# EAGLE library part WE-SPEEDY_DESIGN_SERVICE_12PIN (library Wurth_Elektronik_Passive_rev15d)
WE-Speedy Design Service, 12 Pin - Any application that fits package style - Switch Mode Power: Flyback, Forward, Push-Pull, Coupled Inductor -- Telecom Applications: xDSL, POTS Splitter Inductors
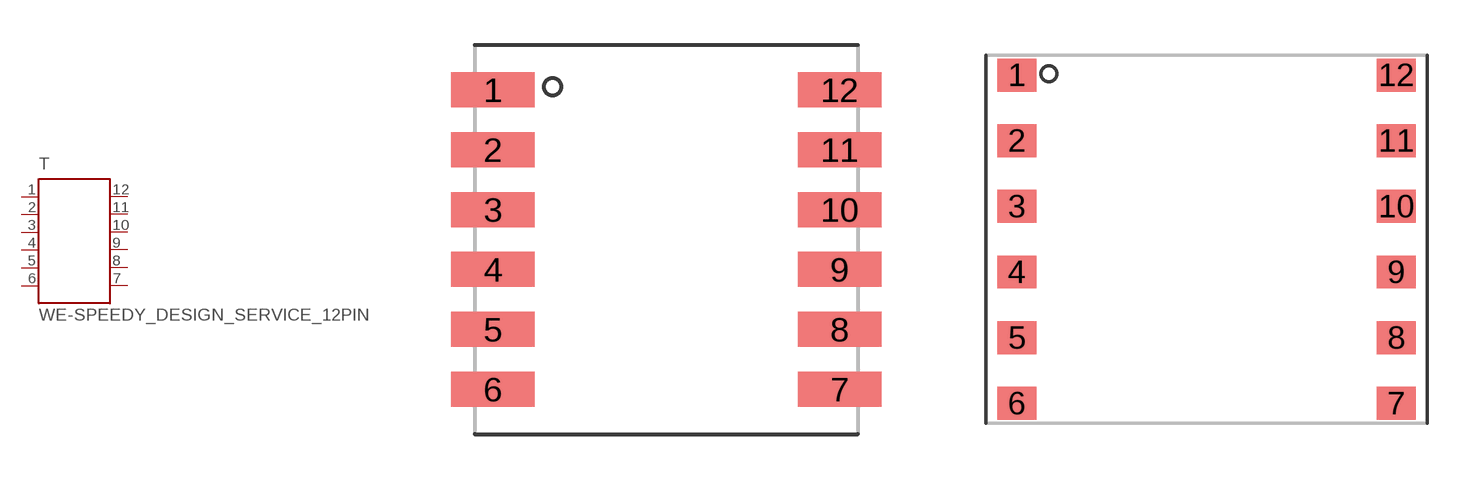
[diagram p35: symbol with the pads of WE_ER11.5_SMD_12PIN; footprints WE_ER11.5_SMD_12PIN, WE_ER14.5_SMD_12PIN]

Designator prefix T

## WE-SPEEDY_DESIGN_SERVICE_12PIN_ER11.5_SMD  [WE_ER11.5_SMD_12PIN]
1  1  pas
2  2  pas
3  3  pas
4  4  pas
5  5  pas
6  6  pas
7  7  pas
8  8  pas
9  9  pas
10  10  pas
11  11  pas
12  12  pas

## WE-SPEEDY_DESIGN_SERVICE_12PIN_ER14.5_SMD  [WE_ER14.5_SMD_12PIN]
Pads as for WE_ER11.5_SMD_12PIN

## WE-SPEEDY_DESIGN_SERVICE_12PIN_EFD15_SMD  [WE_EFD15_SMD_12PIN]
Pads as for WE_ER11.5_SMD_12PIN

## WE-SPEEDY_DESIGN_SERVICE_12PIN_EFD20_SMD  [WE_EFD20_SMD_12PIN]
Pads as for WE_ER11.5_SMD_12PIN

## WE-SPEEDY_DESIGN_SERVICE_12PIN_EFD25_SMD  [WE_EFD25_SMD_12PIN]
Pads as for WE_ER11.5_SMD_12PIN

## WE-SPEEDY_DESIGN_SERVICE_12PIN_ER28_THT  [WE_ER28_THT_HORIZONTAL_12PIN]
Pads as for WE_ER11.5_SMD_12PIN

## Footprint WE_ER11.5_SMD_12PIN (pad centres in mm)
Transformer, ER11.5 SMD 12 Pin
smd 2.79 x 1.17: 1 -5.79,5; 2 -5.79,3; 3 -5.79,1; 4 -5.79,-1; 5 -5.79,-3; 6 -5.79,-5; 7 5.79,-5; 8 5.79,-3; 9 5.79,-1; 10 5.79,1; 11 5.79,3; 12 5.79,5

## Footprint WE_ER14.5_SMD_12PIN (pad centres in mm)
Transformer, ER14.5 SMD 12 Pin
smd 1.5 x 1.25: 1 -7.225,6.25; 2 -7.225,3.75; 3 -7.225,1.25; 4 -7.225,-1.25; 5 -7.225,-3.75; 6 -7.225,-6.25; 7 7.225,-6.25; 8 7.225,-3.75; 9 7.225,-1.25; 10 7.225,1.25; 11 7.225,3.75; 12 7.225,6.25

## Footprint WE_EFD15_SMD_12PIN (pad centres in mm)
Transformer, EFD15 SMD 12 Pin
smd 1.17 x 2.62: 1 6.225,9.895; 2 3.735,9.895; 3 1.245,9.895; 4 -1.245,9.895; 5 -3.735,9.895; 6 -6.225,9.895; 7 -6.225,-9.895; 8 -3.735,-9.895; 9 -1.245,-9.895; 10 1.245,-9.895; 11 3.735,-9.895; 12 6.225,-9.895

## Footprint WE_EFD20_SMD_12PIN (pad centres in mm)
Transformer, EFD20 SMD 12 Pin
smd 3.05 x 1.27: 1 -13.26,7.5; 2 -13.26,4.5; 3 -13.26,1.5; 4 -13.26,-1.5; 5 -13.26,-4.5; 6 -13.26,-7.5; 7 13.26,-7.5; 8 13.26,-4.5; 9 13.26,-1.5; 10 13.26,1.5; 11 13.26,4.5; 12 13.26,7.5

## Footprint WE_EFD25_SMD_12PIN (pad centres in mm)
Transformer, EFD25 SMD 12 Pin
smd 2.06 x 1.45: 1 -16.155,9.4; 2 -16.155,5.64; 3 -16.155,1.88; 4 -16.155,-1.88; 5 -16.155,-5.64; 6 -16.155,-9.4; 7 16.155,-9.4; 8 16.155,-5.64; 9 16.155,-1.88; 10 16.155,1.88; 11 16.155,5.64; 12 16.155,9.4

## Footprint WE_ER28_THT_HORIZONTAL_12PIN (pad centres in mm)
Transformer, ER28 THT Horizontal 12 Pin
drill 1.69 square: 1 -12.7,12.5
drill 1.69: 2 -12.7,7.5; 3 -12.7,2.5; 4 -12.7,-2.5; 5 -12.7,-7.5; 6 -12.7,-12.5; 7 12.7,-12.5; 8 12.7,-7.5; 9 12.7,-2.5; 10 12.7,2.5; 11 12.7,7.5; 12 12.7,12.5